# Altium footprint library DIP.PcbLib: 22 footprints (part 2 of 2)
Each footprint in its own frame and in the unit in brackets; x right, y up, seen from the top. Pads: shape width x height; smd on the part's side, far side on the other; paste and mask are expansions set on the pad; w line width, h text height; cw(c..) or ccw(c..) is an arc to the next point about the centre after c.
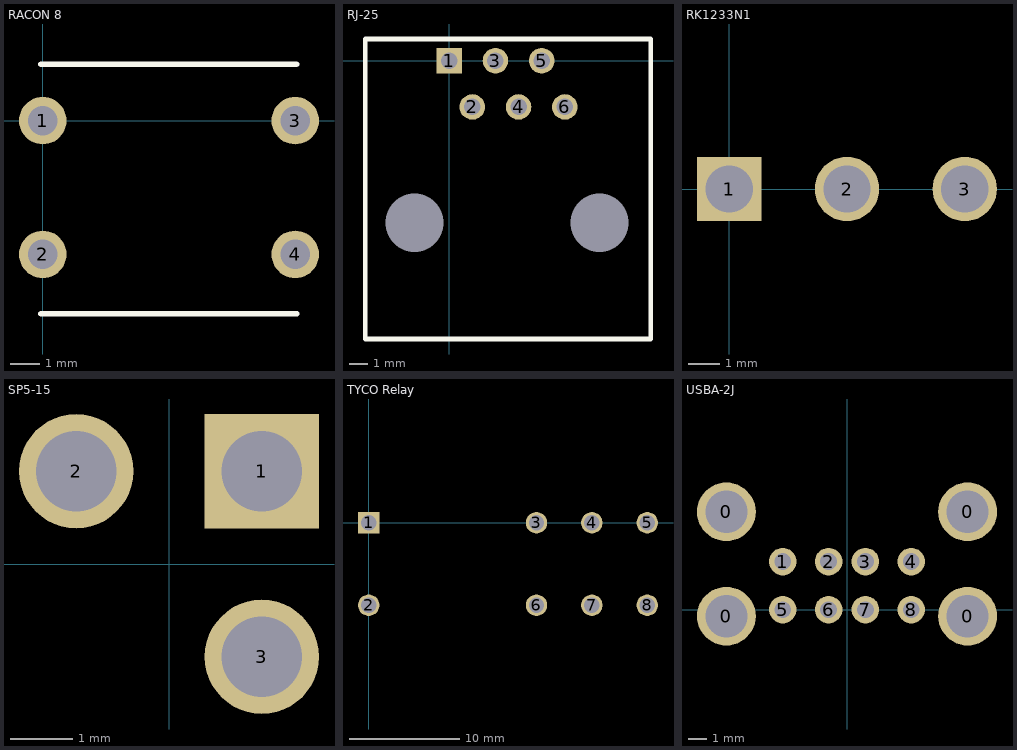
[diagram p1: the footprints below, top view; thin cyan lines are the x and y axes]

## RACON 8 [mm]
pads (4):
  round 1.6 hole 1: 1(0,0) 2(0,-4.5) 3(8.5,0) 4(8.5,-4.5)
Top Overlay:
  lines w0.2: -0.06,-6.5 8.55,-6.5 ; -0.06,1.9 8.54,1.9
3D body "Кнопка RACON8.stp": height 4.88, standoff -3.5, extent -0.06,-6.5 8.54,1.9

## RJ-25 [mm]
pads (8):
  round 0 hole 3.2: 0(-1.905,-8.89) 0(8.255,-8.89)
  rect 1.4x1.4 hole 0.9: 1(0,0)
  round 1.4 hole 0.9: 2(1.27,-2.54) 3(2.54,0) 4(3.81,-2.54) 5(5.08,0) 6(6.35,-2.54)
Top Overlay:
  lines w0.254: -4.59,1.19 -4.6,1.19 ; -4.6,1.19 11.06,1.19 11.06,-15.28 -4.6,-15.28 -4.6,1.19
3D body "65857.stp": height 15.9, standoff -3.78, extent -4.6,-15.28 11.06,1.2

## RK1233N1 [mm]
pads (3):
  rect 2.05x2.05 hole 1.5: 1(0,0)
  round 2.05 hole 1.5: 2(3.75,0) 3(7.5,0)
3D body "User Library-RK1233N1_advanced.step": height 16.58, standoff -2.82, extent -2.804,-20.15 10.223,4.85

## SP5-15 [mm]
pads (3):
  rect 1.85x1.85 hole 1.3: 1(1.5,1.5)
  round 1.85 hole 1.3: 2(-1.5,1.5) 3(1.5,-1.5)
3D body "SP5.stp": height 9.7, standoff -4.5, extent -5.489,-5.5 5.489,5.457

## TYCO Relay [mm]
pads (8):
  rect 1.95x1.95 hole 1.4: 1(0,0)
  round 1.95 hole 1.4: 2(0,-7.5) 3(15.26,0) 4(20.3,0) 5(25.34,0) 6(15.26,-7.5) 7(20.3,-7.5) 8(25.34,-7.5)
3D body: height 15.7, standoff 0, extent -2.54,-10.16 26.924,2.54

## USBA-2J [mm]
pads (12):
  round 3.2 hole 2.3: 0(-6.57,-0.35) 0(-6.57,5.33) 0(6.57,-0.35) 0(6.57,5.33)
  round 1.5 hole 0.92: 1(-3.5,2.62) 2(-1,2.62) 3(1,2.62) 4(3.5,2.62) 5(-3.5,0) 6(-1,0) 7(1,0) 8(3.5,0)
3D body "usb_a-usb_a-2p-c.stp": height 16.2, standoff -3.2, extent -7.85,-1.27 7.85,16.328